# Altium footprint library DS1021-1_3SF11-B.PcbLib: 1 footprints
Each footprint in its own frame and in the unit in brackets; x right, y up, seen from the top. Pads: shape width x height; smd on the part's side, far side on the other; paste and mask are expansions set on the pad; w line width, h text height; cw(c..) or ccw(c..) is an arc to the next point about the centre after c.
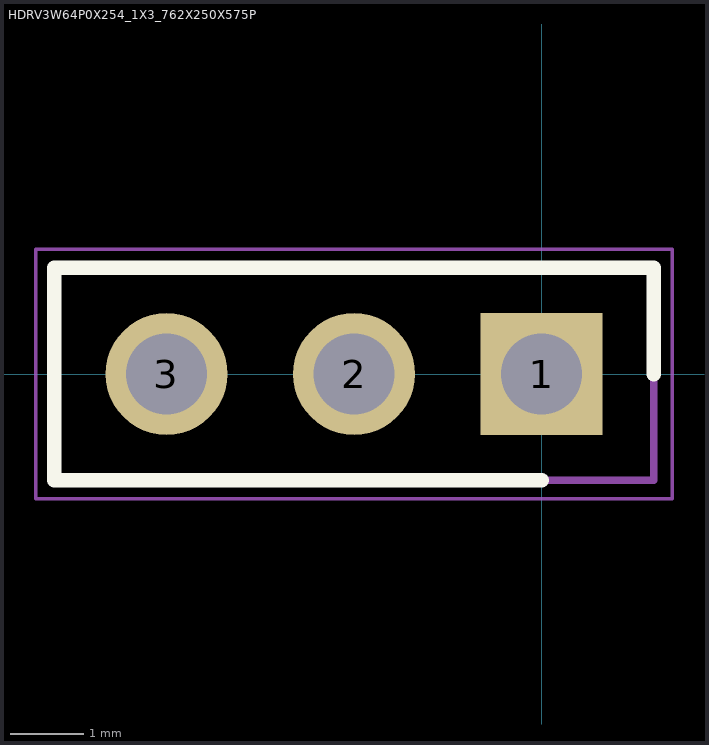
[diagram p0: the footprint, top view; thin cyan lines are the x and y axes]

## HDRV3W64P0X254_1X3_762X250X575P [mm]
pads (3):
  rect 1.65x1.65 hole 1.1: 1(0,0)
  round 1.65 hole 1.1: 2(-2.54,0) 3(-5.08,0)
Top Overlay:
  lines w0.2: 0,-1.44 -6.6,-1.44 -6.6,1.44 1.52,1.44 1.52,0
Mechanical 13:
  lines w0.1: -6.6,-1.44 -6.6,1.44 1.52,1.44 1.52,-1.44 -6.6,-1.44
Mechanical 15:
  lines w0.05: -6.85,-1.69 -6.85,1.69 1.77,1.69 1.77,-1.69 -6.85,-1.69
3D body "DS1021-1_3SF11-B.stp": height 9.27, standoff -2.83, extent -6.35,-1.25 1.27,1.25